# EAGLE library part TMS320LF2403 (library LF2403)
TI low voltage 64 pin DSP with on board CAN
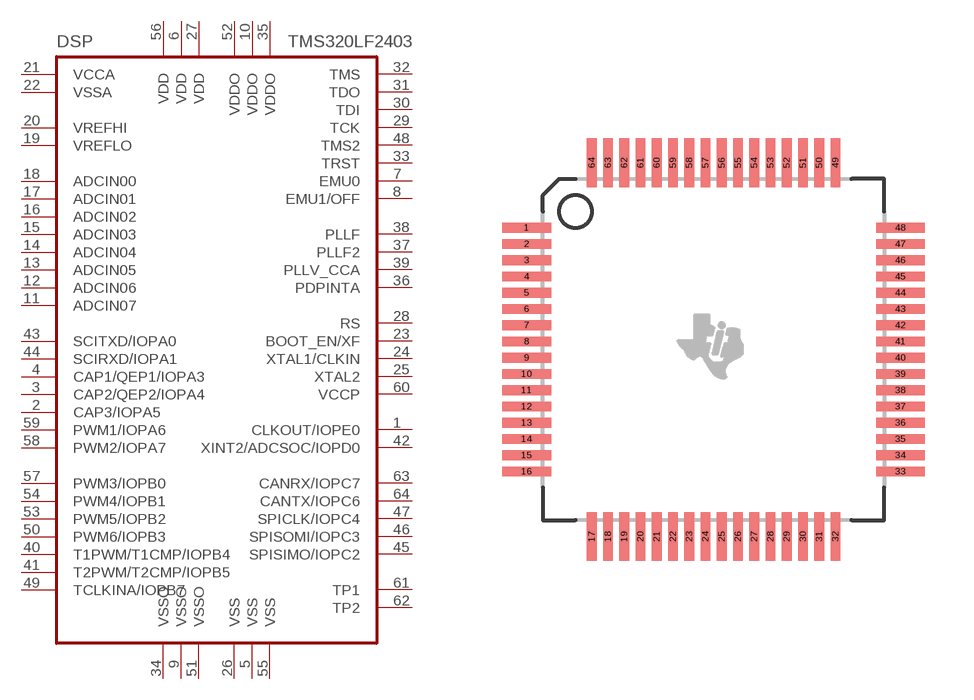
[diagram p0: symbol with the pads of TQFP64; footprint TQFP64]

Designator prefix DSP

## TMS320LF2403  [TQFP64]
1  CLKOUT/IOPE0
2  CAP3/IOPA5
3  CAP2/QEP2/IOPA4
4  CAP1/QEP1/IOPA3
5  VSS
6  VDD
7  EMU0
8  EMU1/OFF
9  VSSO
10  VDDO
11  ADCIN07
12  ADCIN06
13  ADCIN05
14  ADCIN04
15  ADCIN03
16  ADCIN02
17  ADCIN01
18  ADCIN00
19  VREFLO
20  VREFHI
21  VCCA
22  VSSA
23  BOOT_EN/XF
24  XTAL1/CLKIN
25  XTAL2
26  VSS
27  VDD
28  RS
29  TCK
30  TDI
31  TDO
32  TMS
33  TRST
34  VSSO
35  VDDO
36  PDPINTA
37  PLLF2
38  PLLF
39  PLLV_CCA
40  T1PWM/T1CMP/IOPB4
41  T2PWM/T2CMP/IOPB5
42  XINT2/ADCSOC/IOPD0
43  SCITXD/IOPA0
44  SCIRXD/IOPA1
45  SPISIMO/IOPC2
46  SPISOMI/IOPC3
47  SPICLK/IOPC4
48  TMS2
49  TCLKINA/IOPB7
50  PWM6/IOPB3
51  VSSO
52  VDDO
53  PWM5/IOPB2
54  PWM4/IOPB1
55  VSS
56  VDD
57  PWM3/IOPB0
58  PWM2/IOPA7
59  PWM1/IOPA6
60  VCCP
61  TP1
62  TP2
63  CANRX/IOPC7
64  CANTX/IOPC6

## Footprint TQFP64 (pad centres in mm)
64 PIN THIN QUAD FLATPACK
smd 1.5 x 0.3: 1 -5.5,3.5; 2 -5.5,3; 3 -5.5,2.5; 4 -5.5,2; 5 -5.5,1.5; 6 -5.5,1; 7 -5.5,0.5; 8 -5.5,0; 9 -5.5,-0.5; 10 -5.5,-1; 11 -5.5,-1.5; 12 -5.5,-2; 13 -5.5,-2.5; 14 -5.5,-3; 15 -5.5,-3.5; 16 -5.5,-4; 33 6,-4; 34 6,-3.5; 35 6,-3; 36 6,-2.5; 37 6,-2; 38 6,-1.5; 39 6,-1; 40 6,-0.5; 41 6,0; 42 6,0.5; 43 6,1; 44 6,1.5; 45 6,2; 46 6,2.5; 47 6,3; 48 6,3.5
smd 0.3 x 1.5: 17 -3.5,-6; 18 -3,-6; 19 -2.5,-6; 20 -2,-6; 21 -1.5,-6; 22 -1,-6; 23 -0.5,-6; 24 0,-6; 25 0.5,-6; 26 1,-6; 27 1.5,-6; 28 2,-6; 29 2.5,-6; 30 3,-6; 31 3.5,-6; 32 4,-6; 49 4,5.5; 50 3.5,5.5; 51 3,5.5; 52 2.5,5.5; 53 2,5.5; 54 1.5,5.5; 55 1,5.5; 56 0.5,5.5; 57 0,5.5; 58 -0.5,5.5; 59 -1,5.5; 60 -1.5,5.5; 61 -2,5.5; 62 -2.5,5.5; 63 -3,5.5; 64 -3.5,5.5